# EAGLE library part ANONLYDISC (library mike)
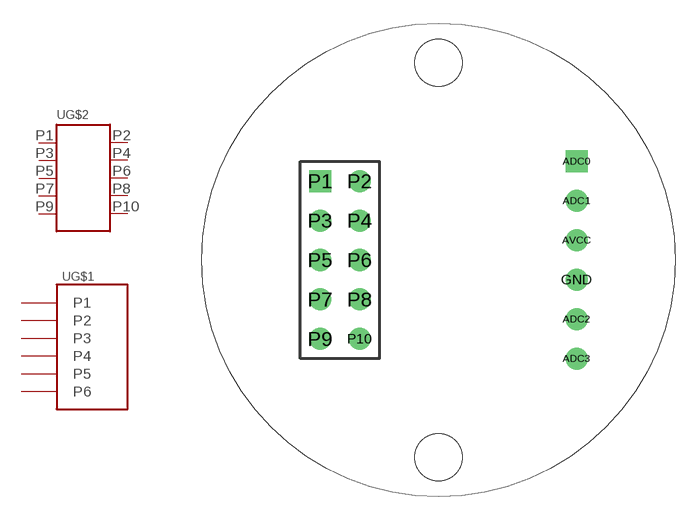
[diagram p21: symbol with the pads of ANALOGONLYDISC; footprint ANALOGONLYDISC]

Designator prefix -; gates G$1=HEADER6 G$2=HEADER10

## ANONLYDISC  [ANALOGONLYDISC]
ADC0  G$1:P1
ADC1  G$1:P2
ADC2  G$1:P5
ADC3  G$1:P6
AVCC  G$1:P3  pwr
GND  G$1:P4  pwr
P1  G$2:P1
P2  G$2:P2
P3  G$2:P3
P4  G$2:P4
P5  G$2:P5
P6  G$2:P6
P7  G$2:P7
P8  G$2:P8
P9  G$2:P9
P10  G$2:P10

## Footprint ANALOGONLYDISC (pad centres in mm)
drill 0.889 pad 1.422 square: ADC0 8.89,6.35; P1 -7.62,5.08
drill 0.889 pad 1.422 round: ADC1 8.89,3.81; ADC2 8.89,-3.81; ADC3 8.89,-6.35; AVCC 8.89,1.27; GND 8.89,-1.27; P2 -5.08,5.08; P3 -7.62,2.54; P4 -5.08,2.54; P5 -7.62,0; P6 -5.08,0; P7 -7.62,-2.54; P8 -5.08,-2.54; P9 -7.62,-5.08; P10 -5.08,-5.08
hole 3.048 at 0,-12.7
hole 3.048 at 0,12.7